# Altium integrated library Diode - TVS.IntLib: 371 symbols (part 4 of 6)
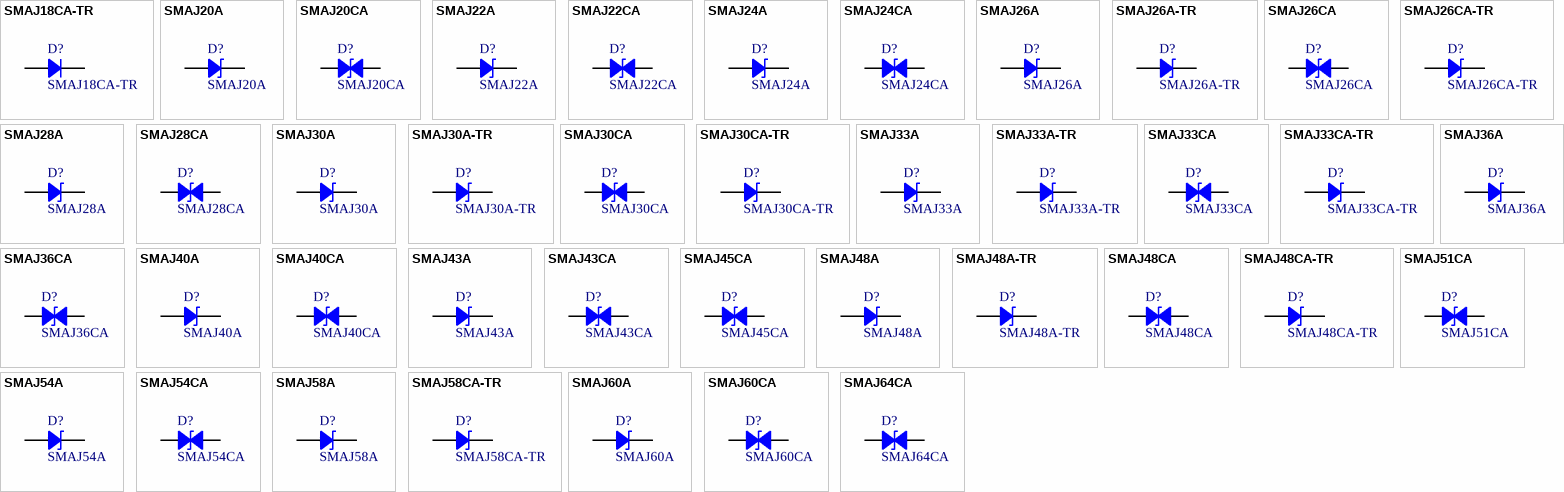
[diagram p12: symbols SMAJ18CA-TR to SMAJ64CA]

## SMAJ40A
designator D?
TVS DIODE 40VWM 64.5VC DO214AC; Manufacturer: Bourns Inc.; Type: Zener; Unidirectional Channels: 1; Power - Peak Pulse: 400W; Current - Peak Pulse: 6.2A; Voltage (Clamping): 64.5V; Voltage (Breakdown): 44.4V; Voltage (Reverse Standoff): 40V; Part Number: SMAJ40A; PartId: 14884; Supplier 1: Digi-Key; Supplier Part Number 1: SMAJ40ABTR-ND; ComponentLink1Description: Datasheet; ComponentLink1URL: http://www.bourns.com/docs/Product-Datasheets/SMAJ.pdf; ComponentLink2Description: Digi-Key Listing; ComponentLink2URL: https://www.digikey.com/product-detail/en/bourns-inc/SMAJ40A/SMAJ40ABTR-ND/2253427; Operating Temperature: -55C ~ 150C (TJ); Price: 0.0928; Device Package: DO-214AC, SMA
footprint Bourns DO214AC SMA
pins: 1, 2

## SMAJ40CA
designator D?
TVS DIODE 40VWM 64.5VC DO214AC; Manufacturer: Bourns Inc.; Type: Zener; Bidirectional Channels: 1; Power - Peak Pulse: 400W; Current - Peak Pulse: 6.2A; Voltage (Clamping): 64.5V; Voltage (Breakdown): 44.4V; Voltage (Reverse Standoff): 40V; Part Number: SMAJ40CA; PartId: 14846; Supplier 1: Digi-Key; Supplier Part Number 1: SMAJ40CABTR-ND; ComponentLink1Description: Datasheet; ComponentLink1URL: http://www.bourns.com/docs/Product-Datasheets/SMAJ.pdf; ComponentLink2Description: Digi-Key Listing; ComponentLink2URL: https://www.digikey.com/product-detail/en/bourns-inc/SMAJ40CA/SMAJ40CABTR-ND/2254555; Operating Temperature: -55C ~ 150C (TJ); Price: 0.0992; Device Package: DO-214AC, SMA
footprint Bourns DO214AC SMA
pins: 1, 2

## SMAJ43A
designator D?
TVS DIODE 43VWM 69.4VC DO214AC; Manufacturer: Bourns Inc.; Type: Zener; Unidirectional Channels: 1; Power - Peak Pulse: 400W; Current - Peak Pulse: 5.8A; Voltage (Clamping): 69.4V; Voltage (Breakdown): 47.8V; Voltage (Reverse Standoff): 43V; Part Number: SMAJ43A; PartId: 14901; Supplier 1: Digi-Key; Supplier Part Number 1: SMAJ43ABTR-ND; ComponentLink1Description: Datasheet; ComponentLink1URL: http://www.bourns.com/docs/Product-Datasheets/SMAJ.pdf; ComponentLink2Description: Digi-Key Listing; ComponentLink2URL: https://www.digikey.com/product-detail/en/bourns-inc/SMAJ43A/SMAJ43ABTR-ND/2254753; Operating Temperature: -55C ~ 150C (TJ); Price: 0.0928; Device Package: DO-214AC, SMA
footprint Bourns DO214AC SMA
pins: 1, 2

## SMAJ43CA
designator D?
TVS DIODE 43VWM 69.4VC DO214AC; Manufacturer: Bourns Inc.; Type: Zener; Bidirectional Channels: 1; Power - Peak Pulse: 400W; Current - Peak Pulse: 5.8A; Voltage (Clamping): 69.4V; Voltage (Breakdown): 47.8V; Voltage (Reverse Standoff): 43V; Part Number: SMAJ43CA; PartId: 14856; Supplier 1: Digi-Key; Supplier Part Number 1: SMAJ43CABTR-ND; ComponentLink1Description: Datasheet; ComponentLink1URL: http://www.bourns.com/docs/Product-Datasheets/SMAJ.pdf; ComponentLink2Description: Digi-Key Listing; ComponentLink2URL: https://www.digikey.com/product-detail/en/bourns-inc/SMAJ43CA/SMAJ43CABTR-ND/2254755; Operating Temperature: -55C ~ 150C (TJ); Price: 0.0992; Device Package: DO-214AC, SMA
footprint Bourns DO214AC SMA
pins: 1, 2

## SMAJ45CA
designator D?
TVS DIODE 45VWM 72.7VC DO214AC; Manufacturer: Bourns Inc.; Type: Zener; Bidirectional Channels: 1; Power - Peak Pulse: 400W; Current - Peak Pulse: 5.5A; Voltage (Clamping): 72.7V; Voltage (Breakdown): 50V; Voltage (Reverse Standoff): 45V; Part Number: SMAJ45CA; PartId: 14835; Supplier 1: Digi-Key; Supplier Part Number 1: SMAJ45CABTR-ND; ComponentLink1Description: Datasheet; ComponentLink1URL: http://www.bourns.com/docs/Product-Datasheets/SMAJ.pdf; ComponentLink2Description: Digi-Key Listing; ComponentLink2URL: https://www.digikey.com/product-detail/en/bourns-inc/SMAJ45CA/SMAJ45CABTR-ND/2253433; Operating Temperature: -55C ~ 150C (TJ); Price: 0.0992; Device Package: DO-214AC, SMA
footprint Bourns DO214AC SMA
pins: 1, 2

## SMAJ48A
designator D?
TVS DIODE 48VWM 77.4VC DO214AC; Manufacturer: Bourns Inc.; Type: Zener; Unidirectional Channels: 1; Power - Peak Pulse: 400W; Current - Peak Pulse: 5.2A; Voltage (Clamping): 77.4V; Voltage (Breakdown): 53.3V; Voltage (Reverse Standoff): 48V; Part Number: SMAJ48A; PartId: 14879; Supplier 1: Digi-Key; Supplier Part Number 1: SMAJ48ABTR-ND; ComponentLink1Description: Datasheet; ComponentLink1URL: http://www.bourns.com/docs/Product-Datasheets/SMAJ.pdf; ComponentLink2Description: Digi-Key Listing; ComponentLink2URL: https://www.digikey.com/product-detail/en/bourns-inc/SMAJ48A/SMAJ48ABTR-ND/2254751; Operating Temperature: -55C ~ 150C (TJ); Price: 0.0928; Device Package: DO-214AC, SMA
footprint Bourns DO214AC SMA
pins: 1, 2

## SMAJ48A-TR
designator D?
TVS DIODE 48VWM 100VC SMA; Manufacturer: STMicroelectronics; Type: Zener; Unidirectional Channels: 1; Power - Peak Pulse: 400W; Current - Peak Pulse: 23A (8/20us); Voltage (Clamping): 100V; Voltage (Breakdown): 53.3V; Voltage (Reverse Standoff): 48V; Part Number: SMAJ48A-TR; PartId: 14914; Supplier 1: Digi-Key; Supplier Part Number 1: 497-14743-2-ND; ComponentLink1Description: Datasheet; ComponentLink1URL: http://www2.st.com/content/ccc/resource/technical/document/datasheet/ff/c0/80/cc/19/4c/45/af/CD00001333.pdf/files/CD00001333.pdf/_jcr_content/translations/en.CD00001333.pdf; ComponentLink2Description: Digi-Key Listing; ComponentLink2URL: https://www.digikey.com/product-detail/en/stmicroelectronics/SMAJ48A-TR/497-14743-2-ND/1039120; Operating Temperature: -55C ~ 150C (TJ); Price: 0.0782; Device Package: DO-214AC, SMA
footprint ST DO214AC SMA
pins: 1, 2

## SMAJ48CA
designator D?
TVS DIODE 48VWM 77.4VC DO214AC; Manufacturer: Bourns Inc.; Type: Zener; Bidirectional Channels: 1; Power - Peak Pulse: 400W; Current - Peak Pulse: 5.2A; Voltage (Clamping): 77.4V; Voltage (Breakdown): 53.3V; Voltage (Reverse Standoff): 48V; Part Number: SMAJ48CA; PartId: 14858; Supplier 1: Digi-Key; Supplier Part Number 1: SMAJ48CABTR-ND; ComponentLink1Description: Datasheet; ComponentLink1URL: http://www.bourns.com/docs/Product-Datasheets/SMAJ.pdf; ComponentLink2Description: Digi-Key Listing; ComponentLink2URL: https://www.digikey.com/product-detail/en/bourns-inc/SMAJ48CA/SMAJ48CABTR-ND/2254747; Operating Temperature: -55C ~ 150C (TJ); Price: 0.0992; Device Package: DO-214AC, SMA
footprint Bourns DO214AC SMA
pins: 1, 2

## SMAJ48CA-TR
designator D?
TVS DIODE 48VWM 100VC SMA; Manufacturer: STMicroelectronics; Type: Zener; Bidirectional Channels: 1; Power - Peak Pulse: 400W; Current - Peak Pulse: 23A (8/20us); Voltage (Clamping): 100V; Voltage (Breakdown): 53.3V; Voltage (Reverse Standoff): 48V; Part Number: SMAJ48CA-TR; PartId: 14937; Supplier 1: Digi-Key; Supplier Part Number 1: 497-15657-2-ND; ComponentLink1Description: Datasheet; ComponentLink1URL: http://www2.st.com/content/ccc/resource/technical/document/datasheet/ff/c0/80/cc/19/4c/45/af/CD00001333.pdf/files/CD00001333.pdf/_jcr_content/translations/en.CD00001333.pdf; ComponentLink2Description: Digi-Key Listing; ComponentLink2URL: https://www.digikey.com/product-detail/en/stmicroelectronics/SMAJ48CA-TR/497-15657-2-ND/1039121; Operating Temperature: -55C ~ 150C (TJ); Price: 0.0833; Device Package: DO-214AC, SMA
footprint ST DO214AC SMA
pins: 1, 2

## SMAJ51CA
designator D?
TVS DIODE 51VWM 82.4VC DO214AC; Manufacturer: Bourns Inc.; Type: Zener; Bidirectional Channels: 1; Power - Peak Pulse: 400W; Current - Peak Pulse: 4.9A; Voltage (Clamping): 82.4V; Voltage (Breakdown): 56.7V; Voltage (Reverse Standoff): 51V; Part Number: SMAJ51CA; PartId: 14839; Supplier 1: Digi-Key; Supplier Part Number 1: SMAJ51CABTR-ND; ComponentLink1Description: Datasheet; ComponentLink1URL: http://www.bourns.com/docs/Product-Datasheets/SMAJ.pdf; ComponentLink2Description: Digi-Key Listing; ComponentLink2URL: https://www.digikey.com/product-detail/en/bourns-inc/SMAJ51CA/SMAJ51CABTR-ND/2254730; Operating Temperature: -55C ~ 150C (TJ); Price: 0.0992; Device Package: DO-214AC, SMA
footprint Bourns DO214AC SMA
pins: 1, 2

## SMAJ54A
designator D?
TVS DIODE 54VWM 87.1VC DO214AC; Manufacturer: Bourns Inc.; Type: Zener; Unidirectional Channels: 1; Power - Peak Pulse: 400W; Current - Peak Pulse: 4.6A; Voltage (Clamping): 87.1V; Voltage (Breakdown): 60V; Voltage (Reverse Standoff): 54V; Part Number: SMAJ54A; PartId: 14881; Supplier 1: Digi-Key; Supplier Part Number 1: SMAJ54ABTR-ND; ComponentLink1Description: Datasheet; ComponentLink1URL: http://www.bourns.com/docs/Product-Datasheets/SMAJ.pdf; ComponentLink2Description: Digi-Key Listing; ComponentLink2URL: https://www.digikey.com/product-detail/en/bourns-inc/SMAJ54A/SMAJ54ABTR-ND/2254697; Operating Temperature: -55C ~ 150C (TJ); Price: 0.0928; Device Package: DO-214AC, SMA
footprint Bourns DO214AC SMA
pins: 1, 2

## SMAJ54CA
designator D?
TVS DIODE 54VWM 87.1VC DO214AC; Manufacturer: Bourns Inc.; Type: Zener; Bidirectional Channels: 1; Power - Peak Pulse: 400W; Current - Peak Pulse: 4.6A; Voltage (Clamping): 87.1V; Voltage (Breakdown): 60V; Voltage (Reverse Standoff): 54V; Part Number: SMAJ54CA; PartId: 14850; Supplier 1: Digi-Key; Supplier Part Number 1: SMAJ54CABTR-ND; ComponentLink1Description: Datasheet; ComponentLink1URL: http://www.bourns.com/docs/Product-Datasheets/SMAJ.pdf; ComponentLink2Description: Digi-Key Listing; ComponentLink2URL: https://www.digikey.com/product-detail/en/bourns-inc/SMAJ54CA/SMAJ54CABTR-ND/2254694; Operating Temperature: -55C ~ 150C (TJ); Price: 0.0992; Device Package: DO-214AC, SMA
footprint Bourns DO214AC SMA
pins: 1, 2

## SMAJ58A
designator D?
TVS DIODE 58VWM 93.6VC DO214AC; Manufacturer: Bourns Inc.; Type: Zener; Unidirectional Channels: 1; Power - Peak Pulse: 400W; Current - Peak Pulse: 4.3A; Voltage (Clamping): 93.6V; Voltage (Breakdown): 64.4V; Voltage (Reverse Standoff): 58V; Part Number: SMAJ58A; PartId: 14885; Supplier 1: Digi-Key; Supplier Part Number 1: SMAJ58ABTR-ND; ComponentLink1Description: Datasheet; ComponentLink1URL: http://www.bourns.com/docs/Product-Datasheets/SMAJ.pdf; ComponentLink2Description: Digi-Key Listing; ComponentLink2URL: https://www.digikey.com/product-detail/en/bourns-inc/SMAJ58A/SMAJ58ABTR-ND/2254713; Operating Temperature: -55C ~ 150C (TJ); Price: 0.0928; Device Package: DO-214AC, SMA
footprint Bourns DO214AC SMA
pins: 1, 2

## SMAJ58CA-TR
designator D?
TVS DIODE 58VWM 121VC SMA; Manufacturer: STMicroelectronics; Type: Zener; Bidirectional Channels: 1; Power - Peak Pulse: 400W; Current - Peak Pulse: 19A (8/20us); Voltage (Clamping): 121V; Voltage (Breakdown): 64.4V; Voltage (Reverse Standoff): 58V; Part Number: SMAJ58CA-TR; PartId: 14949; Supplier 1: Digi-Key; Supplier Part Number 1: 497-6509-2-ND; ComponentLink1Description: Datasheet; ComponentLink1URL: http://www2.st.com/content/ccc/resource/technical/document/datasheet/ff/c0/80/cc/19/4c/45/af/CD00001333.pdf/files/CD00001333.pdf/_jcr_content/translations/en.CD00001333.pdf; ComponentLink2Description: Digi-Key Listing; ComponentLink2URL: https://www.digikey.com/product-detail/en/stmicroelectronics/SMAJ58CA-TR/497-6509-2-ND/1165922; Operating Temperature: -55C ~ 150C (TJ); Price: 0.1003; Device Package: DO-214AC, SMA
footprint ST DO214AC SMA
pins: 1, 2

## SMAJ60A
designator D?
TVS DIODE 60VWM 96.8VC DO214AC; Manufacturer: Bourns Inc.; Type: Zener; Unidirectional Channels: 1; Power - Peak Pulse: 400W; Current - Peak Pulse: 4.1A; Voltage (Clamping): 96.8V; Voltage (Breakdown): 66.7V; Voltage (Reverse Standoff): 60V; Part Number: SMAJ60A; PartId: 14886; Supplier 1: Digi-Key; Supplier Part Number 1: SMAJ60ABTR-ND; ComponentLink1Description: Datasheet; ComponentLink1URL: http://www.bourns.com/docs/Product-Datasheets/SMAJ.pdf; ComponentLink2Description: Digi-Key Listing; ComponentLink2URL: https://www.digikey.com/product-detail/en/bourns-inc/SMAJ60A/SMAJ60ABTR-ND/2253429; Operating Temperature: -55C ~ 150C (TJ); Price: 0.0928; Device Package: DO-214AC, SMA
footprint Bourns DO214AC SMA
pins: 1, 2

## SMAJ60CA
designator D?
TVS DIODE 60VWM 96.8VC DO214AC; Manufacturer: Bourns Inc.; Type: Zener; Bidirectional Channels: 1; Power - Peak Pulse: 400W; Current - Peak Pulse: 4.1A; Voltage (Clamping): 96.8V; Voltage (Breakdown): 66.7V; Voltage (Reverse Standoff): 60V; Part Number: SMAJ60CA; PartId: 14859; Supplier 1: Digi-Key; Supplier Part Number 1: SMAJ60CABTR-ND; ComponentLink1Description: Datasheet; ComponentLink1URL: http://www.bourns.com/docs/Product-Datasheets/SMAJ.pdf; ComponentLink2Description: Digi-Key Listing; ComponentLink2URL: https://www.digikey.com/product-detail/en/bourns-inc/SMAJ60CA/SMAJ60CABTR-ND/2254749; Operating Temperature: -55C ~ 150C (TJ); Price: 0.0992; Device Package: DO-214AC, SMA
footprint Bourns DO214AC SMA
pins: 1, 2

## SMAJ64CA
designator D?
TVS DIODE 64VWM 103VC DO214AC; Manufacturer: Bourns Inc.; Type: Zener; Bidirectional Channels: 1; Power - Peak Pulse: 400W; Current - Peak Pulse: 3.9A; Voltage (Clamping): 103V; Voltage (Breakdown): 71.1V; Voltage (Reverse Standoff): 64V; Part Number: SMAJ64CA; PartId: 14866; Supplier 1: Digi-Key; Supplier Part Number 1: SMAJ64CABTR-ND; ComponentLink1Description: Datasheet; ComponentLink1URL: http://www.bourns.com/docs/Product-Datasheets/SMAJ.pdf; ComponentLink2Description: Digi-Key Listing; ComponentLink2URL: https://www.digikey.com/product-detail/en/bourns-inc/SMAJ64CA/SMAJ64CABTR-ND/2254707; Operating Temperature: -55C ~ 150C (TJ); Price: 0.0992; Device Package: DO-214AC, SMA
footprint Bourns DO214AC SMA
pins: 1, 2

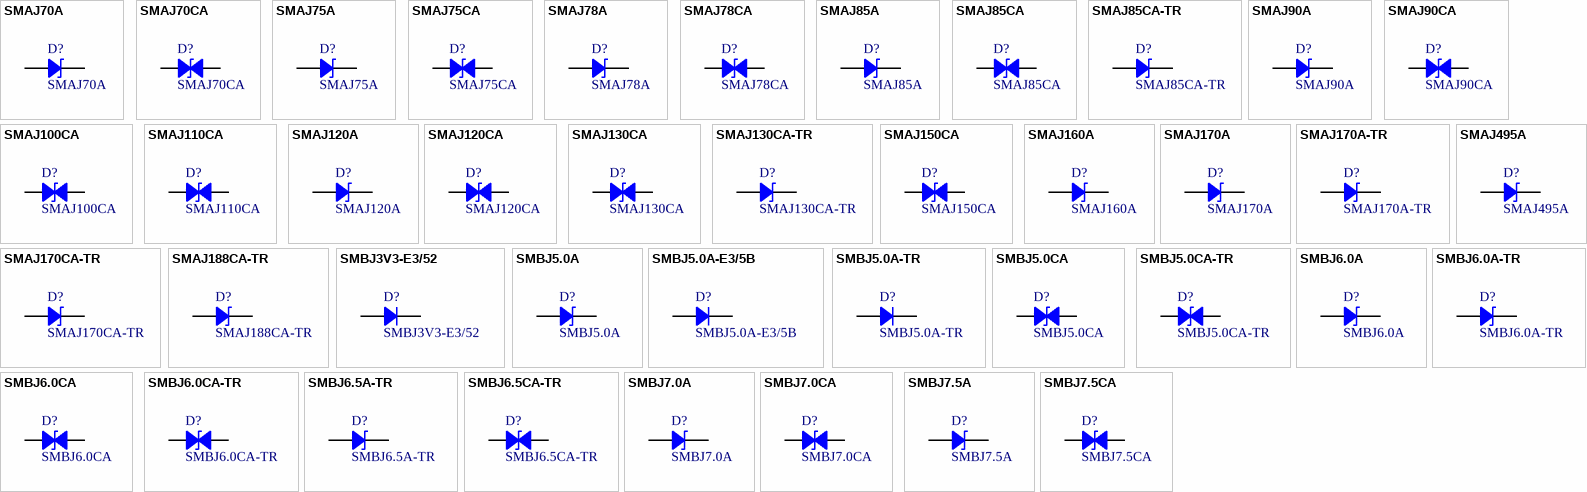
[diagram p5: symbols SMAJ70A to SMBJ7.5CA]

## SMAJ70A
designator D?
TVS DIODE 70VWM 113VC DO214AC; Manufacturer: Bourns Inc.; Type: Zener; Unidirectional Channels: 1; Power - Peak Pulse: 400W; Current - Peak Pulse: 3.5A; Voltage (Clamping): 113V; Voltage (Breakdown): 77.8V; Voltage (Reverse Standoff): 70V; Part Number: SMAJ70A; PartId: 14900; Supplier 1: Digi-Key; Supplier Part Number 1: SMAJ70ABTR-ND; ComponentLink1Description: Datasheet; ComponentLink1URL: http://www.bourns.com/docs/Product-Datasheets/SMAJ.pdf; ComponentLink2Description: Digi-Key Listing; ComponentLink2URL: https://www.digikey.com/product-detail/en/bourns-inc/SMAJ70A/SMAJ70ABTR-ND/2254659; Operating Temperature: -55C ~ 150C (TJ); Price: 0.0928; Device Package: DO-214AC, SMA
footprint Bourns DO214AC SMA
pins: 1, 2

## SMAJ70CA
designator D?
TVS DIODE 70VWM 113VC DO214AC; Manufacturer: Bourns Inc.; Type: Zener; Bidirectional Channels: 1; Power - Peak Pulse: 400W; Current - Peak Pulse: 3.5A; Voltage (Clamping): 113V; Voltage (Breakdown): 77.8V; Voltage (Reverse Standoff): 70V; Part Number: SMAJ70CA; PartId: 14845; Supplier 1: Digi-Key; Supplier Part Number 1: SMAJ70CABTR-ND; ComponentLink1Description: Datasheet; ComponentLink1URL: http://www.bourns.com/docs/Product-Datasheets/SMAJ.pdf; ComponentLink2Description: Digi-Key Listing; ComponentLink2URL: https://www.digikey.com/product-detail/en/bourns-inc/SMAJ70CA/SMAJ70CABTR-ND/2254701; Operating Temperature: -55C ~ 150C (TJ); Price: 0.0992; Device Package: DO-214AC, SMA
footprint Bourns DO214AC SMA
pins: 1, 2

## SMAJ75A
designator D?
TVS DIODE 75VWM 121VC DO214AC; Manufacturer: Bourns Inc.; Type: Zener; Unidirectional Channels: 1; Power - Peak Pulse: 400W; Current - Peak Pulse: 3.3A; Voltage (Clamping): 121V; Voltage (Breakdown): 83.3V; Voltage (Reverse Standoff): 75V; Part Number: SMAJ75A; PartId: 14899; Supplier 1: Digi-Key; Supplier Part Number 1: SMAJ75ABTR-ND; ComponentLink1Description: Datasheet; ComponentLink1URL: http://www.bourns.com/docs/Product-Datasheets/SMAJ.pdf; ComponentLink2Description: Digi-Key Listing; ComponentLink2URL: https://www.digikey.com/product-detail/en/bourns-inc/SMAJ75A/SMAJ75ABTR-ND/2254664; Operating Temperature: -55C ~ 150C (TJ); Price: 0.0928; Device Package: DO-214AC, SMA
footprint Bourns DO214AC SMA
pins: 1, 2

## SMAJ75CA
designator D?
TVS DIODE 75VWM 121VC DO214AC; Manufacturer: Bourns Inc.; Type: Zener; Bidirectional Channels: 1; Power - Peak Pulse: 400W; Current - Peak Pulse: 3.3A; Voltage (Clamping): 121V; Voltage (Breakdown): 83.3V; Voltage (Reverse Standoff): 75V; Part Number: SMAJ75CA; PartId: 14869; Supplier 1: Digi-Key; Supplier Part Number 1: SMAJ75CABTR-ND; ComponentLink1Description: Datasheet; ComponentLink1URL: http://www.bourns.com/docs/Product-Datasheets/SMAJ.pdf; ComponentLink2Description: Digi-Key Listing; ComponentLink2URL: https://www.digikey.com/product-detail/en/bourns-inc/SMAJ75CA/SMAJ75CABTR-ND/2254545; Operating Temperature: -55C ~ 150C (TJ); Price: 0.0992; Device Package: DO-214AC, SMA
footprint Bourns DO214AC SMA
pins: 1, 2

## SMAJ78A
designator D?
TVS DIODE 78VWM 126VC DO214AC; Manufacturer: Bourns Inc.; Type: Zener; Unidirectional Channels: 1; Power - Peak Pulse: 400W; Current - Peak Pulse: 3.2A; Voltage (Clamping): 126V; Voltage (Breakdown): 86.7V; Voltage (Reverse Standoff): 78V; Part Number: SMAJ78A; PartId: 14898; Supplier 1: Digi-Key; Supplier Part Number 1: SMAJ78ABTR-ND; ComponentLink1Description: Datasheet; ComponentLink1URL: http://www.bourns.com/docs/Product-Datasheets/SMAJ.pdf; ComponentLink2Description: Digi-Key Listing; ComponentLink2URL: https://www.digikey.com/product-detail/en/bourns-inc/SMAJ78A/SMAJ78ABTR-ND/2254547; Operating Temperature: -55C ~ 150C (TJ); Price: 0.0928; Device Package: DO-214AC, SMA
footprint Bourns DO214AC SMA
pins: 1, 2

## SMAJ78CA
designator D?
TVS DIODE 78VWM 126VC DO214AC; Manufacturer: Bourns Inc.; Type: Zener; Bidirectional Channels: 1; Power - Peak Pulse: 400W; Current - Peak Pulse: 3.2A; Voltage (Clamping): 126V; Voltage (Breakdown): 86.7V; Voltage (Reverse Standoff): 78V; Part Number: SMAJ78CA; PartId: 14868; Supplier 1: Digi-Key; Supplier Part Number 1: SMAJ78CABTR-ND; ComponentLink1Description: Datasheet; ComponentLink1URL: http://www.bourns.com/docs/Product-Datasheets/SMAJ.pdf; ComponentLink2Description: Digi-Key Listing; ComponentLink2URL: https://www.digikey.com/product-detail/en/bourns-inc/SMAJ78CA/SMAJ78CABTR-ND/2254546; Operating Temperature: -55C ~ 150C (TJ); Price: 0.0992; Device Package: DO-214AC, SMA
footprint Bourns DO214AC SMA
pins: 1, 2

## SMAJ85A
designator D?
TVS DIODE 85VWM 137VC DO214AC; Manufacturer: Bourns Inc.; Type: Zener; Unidirectional Channels: 1; Power - Peak Pulse: 400W; Current - Peak Pulse: 2.9A; Voltage (Clamping): 137V; Voltage (Breakdown): 94.4V; Voltage (Reverse Standoff): 85V; Part Number: SMAJ85A; PartId: 14902; Supplier 1: Digi-Key; Supplier Part Number 1: SMAJ85ABTR-ND; ComponentLink1Description: Datasheet; ComponentLink1URL: http://www.bourns.com/docs/Product-Datasheets/SMAJ.pdf; ComponentLink2Description: Digi-Key Listing; ComponentLink2URL: https://www.digikey.com/product-detail/en/bourns-inc/SMAJ85A/SMAJ85ABTR-ND/2253430; Operating Temperature: -55C ~ 150C (TJ); Price: 0.0928; Device Package: DO-214AC, SMA
footprint Bourns DO214AC SMA
pins: 1, 2

## SMAJ85CA
designator D?
TVS DIODE 85VWM 137VC DO214AC; Manufacturer: Bourns Inc.; Type: Zener; Bidirectional Channels: 1; Power - Peak Pulse: 400W; Current - Peak Pulse: 2.9A; Voltage (Clamping): 137V; Voltage (Breakdown): 94.4V; Voltage (Reverse Standoff): 85V; Part Number: SMAJ85CA; PartId: 14847; Supplier 1: Digi-Key; Supplier Part Number 1: SMAJ85CABTR-ND; ComponentLink1Description: Datasheet; ComponentLink1URL: http://www.bourns.com/docs/Product-Datasheets/SMAJ.pdf; ComponentLink2Description: Digi-Key Listing; ComponentLink2URL: https://www.digikey.com/product-detail/en/bourns-inc/SMAJ85CA/SMAJ85CABTR-ND/2254720; Operating Temperature: -55C ~ 150C (TJ); Price: 0.0992; Device Package: DO-214AC, SMA
footprint Bourns DO214AC SMA
pins: 1, 2

## SMAJ85CA-TR
designator D?
TVS DIODE 85VWM 178VC SMA; Manufacturer: STMicroelectronics; Type: Zener; Bidirectional Channels: 1; Power - Peak Pulse: 400W; Current - Peak Pulse: 13A (8/20us); Voltage (Clamping): 178V; Voltage (Breakdown): 94V; Voltage (Reverse Standoff): 85V; Part Number: SMAJ85CA-TR; PartId: 14944; Supplier 1: Digi-Key; Supplier Part Number 1: 497-7897-2-ND; ComponentLink1Description: Datasheet; ComponentLink1URL: http://www2.st.com/content/ccc/resource/technical/document/datasheet/ff/c0/80/cc/19/4c/45/af/CD00001333.pdf/files/CD00001333.pdf/_jcr_content/translations/en.CD00001333.pdf; ComponentLink2Description: Digi-Key Listing; ComponentLink2URL: https://www.digikey.com/product-detail/en/stmicroelectronics/SMAJ85CA-TR/497-7897-2-ND/1039128; Operating Temperature: -55C ~ 150C (TJ); Price: 0.0901; Device Package: DO-214AC, SMA
footprint ST DO214AC SMA
pins: 1, 2

## SMAJ90A
designator D?
TVS DIODE 90VWM 146VC DO214AC; Manufacturer: Bourns Inc.; Type: Zener; Unidirectional Channels: 1; Power - Peak Pulse: 400W; Current - Peak Pulse: 2.7A; Voltage (Clamping): 146V; Voltage (Breakdown): 100V; Voltage (Reverse Standoff): 90V; Part Number: SMAJ90A; PartId: 14903; Supplier 1: Digi-Key; Supplier Part Number 1: SMAJ90ABTR-ND; ComponentLink1Description: Datasheet; ComponentLink1URL: http://www.bourns.com/docs/Product-Datasheets/SMAJ.pdf; ComponentLink2Description: Digi-Key Listing; ComponentLink2URL: https://www.digikey.com/product-detail/en/bourns-inc/SMAJ90A/SMAJ90ABTR-ND/2254729; Operating Temperature: -55C ~ 150C (TJ); Price: 0.0928; Device Package: DO-214AC, SMA
footprint Bourns DO214AC SMA
pins: 1, 2

## SMAJ90CA
designator D?
TVS DIODE 90VWM 146VC DO214AC; Manufacturer: Bourns Inc.; Type: Zener; Bidirectional Channels: 1; Power - Peak Pulse: 400W; Current - Peak Pulse: 2.7A; Voltage (Clamping): 146V; Voltage (Breakdown): 100V; Voltage (Reverse Standoff): 90V; Part Number: SMAJ90CA; PartId: 14867; Supplier 1: Digi-Key; Supplier Part Number 1: SMAJ90CABTR-ND; ComponentLink1Description: Datasheet; ComponentLink1URL: http://www.bourns.com/docs/Product-Datasheets/SMAJ.pdf; ComponentLink2Description: Digi-Key Listing; ComponentLink2URL: https://www.digikey.com/product-detail/en/bourns-inc/SMAJ90CA/SMAJ90CABTR-ND/2253434; Operating Temperature: -55C ~ 150C (TJ); Price: 0.0992; Device Package: DO-214AC, SMA
footprint Bourns DO214AC SMA
pins: 1, 2

## SMAJ100CA
designator D?
TVS DIODE 100VWM 162VC DO214AC; Manufacturer: Bourns Inc.; Type: Zener; Bidirectional Channels: 1; Power - Peak Pulse: 400W; Current - Peak Pulse: 2.5A; Voltage (Clamping): 162V; Voltage (Breakdown): 111V; Voltage (Reverse Standoff): 100V; Part Number: SMAJ100CA; PartId: 14861; Supplier 1: Digi-Key; Supplier Part Number 1: SMAJ100CABTR-ND; ComponentLink1Description: Datasheet; ComponentLink1URL: http://www.bourns.com/docs/Product-Datasheets/SMAJ.pdf; ComponentLink2Description: Digi-Key Listing; ComponentLink2URL: https://www.digikey.com/product-detail/en/bourns-inc/SMAJ100CA/SMAJ100CABTR-ND/2254698; Operating Temperature: -55C ~ 150C (TJ); Price: 0.1025; Device Package: DO-214AC, SMA
footprint Bourns DO214AC SMA
pins: 1, 2

## SMAJ110CA
designator D?
TVS DIODE 110VWM 177VC DO214AC; Manufacturer: Bourns Inc.; Type: Zener; Bidirectional Channels: 1; Power - Peak Pulse: 400W; Current - Peak Pulse: 2.3A; Voltage (Clamping): 177V; Voltage (Breakdown): 122V; Voltage (Reverse Standoff): 110V; Part Number: SMAJ110CA; PartId: 14872; Supplier 1: Digi-Key; Supplier Part Number 1: SMAJ110CABTR-ND; ComponentLink1Description: Datasheet; ComponentLink1URL: http://www.bourns.com/docs/Product-Datasheets/SMAJ.pdf; ComponentLink2Description: Digi-Key Listing; ComponentLink2URL: https://www.digikey.com/product-detail/en/bourns-inc/SMAJ110CA/SMAJ110CABTR-ND/2254702; Operating Temperature: -55C ~ 150C (TJ); Price: 0.1025; Device Package: DO-214AC, SMA
footprint Bourns DO214AC SMA
pins: 1, 2

## SMAJ120A
designator D?
TVS DIODE 120VWM 193VC DO214AC; Manufacturer: Bourns Inc.; Type: Zener; Unidirectional Channels: 1; Power - Peak Pulse: 400W; Current - Peak Pulse: 2.1A; Voltage (Clamping): 193V; Voltage (Breakdown): 133V; Voltage (Reverse Standoff): 120V; Part Number: SMAJ120A; PartId: 14897; Supplier 1: Digi-Key; Supplier Part Number 1: SMAJ120ABTR-ND; ComponentLink1Description: Datasheet; ComponentLink1URL: http://www.bourns.com/docs/Product-Datasheets/SMAJ.pdf; ComponentLink2Description: Digi-Key Listing; ComponentLink2URL: https://www.digikey.com/product-detail/en/bourns-inc/SMAJ120A/SMAJ120ABTR-ND/2254612; Operating Temperature: -55C ~ 150C (TJ); Price: 0.0946; Device Package: DO-214AC, SMA
footprint Bourns DO214AC SMA
pins: 1, 2

## SMAJ120CA
designator D?
TVS DIODE 120VWM 193VC DO214AC; Manufacturer: Bourns Inc.; Type: Zener; Bidirectional Channels: 1; Power - Peak Pulse: 400W; Current - Peak Pulse: 2.1A; Voltage (Clamping): 193V; Voltage (Breakdown): 133V; Voltage (Reverse Standoff): 120V; Part Number: SMAJ120CA; PartId: 14862; Supplier 1: Digi-Key; Supplier Part Number 1: SMAJ120CABTR-ND; ComponentLink1Description: Datasheet; ComponentLink1URL: http://www.bourns.com/docs/Product-Datasheets/SMAJ.pdf; ComponentLink2Description: Digi-Key Listing; ComponentLink2URL: https://www.digikey.com/product-detail/en/bourns-inc/SMAJ120CA/SMAJ120CABTR-ND/2254708; Operating Temperature: -55C ~ 150C (TJ); Price: 0.1025; Device Package: DO-214AC, SMA
footprint Bourns DO214AC SMA
pins: 1, 2

## SMAJ130CA
designator D?
TVS DIODE 130VWM 209VC DO214AC; Manufacturer: Bourns Inc.; Type: Zener; Bidirectional Channels: 1; Power - Peak Pulse: 400W; Current - Peak Pulse: 1.9A; Voltage (Clamping): 209V; Voltage (Breakdown): 144V; Voltage (Reverse Standoff): 130V; Part Number: SMAJ130CA; PartId: 14873; Supplier 1: Digi-Key; Supplier Part Number 1: SMAJ130CABTR-ND; ComponentLink1Description: Datasheet; ComponentLink1URL: http://www.bourns.com/docs/Product-Datasheets/SMAJ.pdf; ComponentLink2Description: Digi-Key Listing; ComponentLink2URL: https://www.digikey.com/product-detail/en/bourns-inc/SMAJ130CA/SMAJ130CABTR-ND/2254691; Operating Temperature: -55C ~ 150C (TJ); Price: 0.1025; Device Package: DO-214AC, SMA
footprint Bourns DO214AC SMA
pins: 1, 2

## SMAJ130CA-TR
designator D?
TVS DIODE 130VWM 265VC SMA; Manufacturer: STMicroelectronics; Type: Zener; Bidirectional Channels: 1; Power - Peak Pulse: 400W; Current - Peak Pulse: 9A (8/20us); Voltage (Clamping): 265V; Voltage (Breakdown): 144V; Voltage (Reverse Standoff): 130V; Part Number: SMAJ130CA-TR; PartId: 14947; Supplier 1: Digi-Key; Supplier Part Number 1: 497-15655-2-ND; ComponentLink1Description: Datasheet; ComponentLink1URL: http://www2.st.com/content/ccc/resource/technical/document/datasheet/ff/c0/80/cc/19/4c/45/af/CD00001333.pdf/files/CD00001333.pdf/_jcr_content/translations/en.CD00001333.pdf; ComponentLink2Description: Digi-Key Listing; ComponentLink2URL: https://www.digikey.com/product-detail/en/stmicroelectronics/SMAJ130CA-TR/497-15655-2-ND/1039102; Operating Temperature: -55C ~ 150C (TJ); Price: 0.0901; Device Package: DO-214AC, SMA
footprint ST DO214AC SMA
pins: 1, 2

## SMAJ150CA
designator D?
TVS DIODE 150VWM 243VC DO214AC; Manufacturer: Bourns Inc.; Type: Zener; Bidirectional Channels: 1; Power - Peak Pulse: 400W; Current - Peak Pulse: 1.6A; Voltage (Clamping): 243V; Voltage (Breakdown): 167V; Voltage (Reverse Standoff): 150V; Part Number: SMAJ150CA; PartId: 14860; Supplier 1: Digi-Key; Supplier Part Number 1: SMAJ150CABTR-ND; ComponentLink1Description: Datasheet; ComponentLink1URL: http://www.bourns.com/docs/Product-Datasheets/SMAJ.pdf; ComponentLink2Description: Digi-Key Listing; ComponentLink2URL: https://www.digikey.com/product-detail/en/bourns-inc/SMAJ150CA/SMAJ150CABTR-ND/2254737; Operating Temperature: -55C ~ 150C (TJ); Price: 0.1025; Device Package: DO-214AC, SMA
footprint Bourns DO214AC SMA
pins: 1, 2

## SMAJ160A
designator D?
TVS DIODE 160VWM 259VC DO214AC; Manufacturer: Bourns Inc.; Type: Zener; Unidirectional Channels: 1; Power - Peak Pulse: 400W; Current - Peak Pulse: 1.5A; Voltage (Clamping): 259V; Voltage (Breakdown): 178V; Voltage (Reverse Standoff): 160V; Part Number: SMAJ160A; PartId: 14904; Supplier 1: Digi-Key; Supplier Part Number 1: SMAJ160ABTR-ND; ComponentLink1Description: Datasheet; ComponentLink1URL: http://www.bourns.com/docs/Product-Datasheets/SMAJ.pdf; ComponentLink2Description: Digi-Key Listing; ComponentLink2URL: https://www.digikey.com/product-detail/en/bourns-inc/SMAJ160A/SMAJ160ABTR-ND/2254731; Operating Temperature: -55C ~ 150C (TJ); Price: 0.0946; Device Package: DO-214AC, SMA
footprint Bourns DO214AC SMA
pins: 1, 2

## SMAJ170A
designator D?
TVS DIODE 170VWM 275VC DO214AC; Manufacturer: Bourns Inc.; Type: Zener; Unidirectional Channels: 1; Power - Peak Pulse: 400W; Current - Peak Pulse: 1.5A; Voltage (Clamping): 275V; Voltage (Breakdown): 189V; Voltage (Reverse Standoff): 170V; Part Number: SMAJ170A; PartId: 14905; Supplier 1: Digi-Key; Supplier Part Number 1: SMAJ170ABTR-ND; ComponentLink1Description: Datasheet; ComponentLink1URL: http://www.bourns.com/docs/Product-Datasheets/SMAJ.pdf; ComponentLink2Description: Digi-Key Listing; ComponentLink2URL: https://www.digikey.com/product-detail/en/bourns-inc/SMAJ170A/SMAJ170ABTR-ND/2254714; Operating Temperature: -55C ~ 150C (TJ); Price: 0.0946; Device Package: DO-214AC, SMA
footprint Bourns DO214AC SMA
pins: 1, 2

## SMAJ170A-TR
designator D?
TVS DIODE 170VWM 353VC SMA; Manufacturer: STMicroelectronics; Type: Zener; Unidirectional Channels: 1; Power - Peak Pulse: 400W; Current - Peak Pulse: 6.5A (8/20us); Voltage (Clamping): 353V; Voltage (Breakdown): 189V; Voltage (Reverse Standoff): 170V; Part Number: SMAJ170A-TR; PartId: 14917; Supplier 1: Digi-Key; Supplier Part Number 1: 497-6505-2-ND; ComponentLink1Description: Datasheet; ComponentLink1URL: http://www2.st.com/content/ccc/resource/technical/document/datasheet/ff/c0/80/cc/19/4c/45/af/CD00001333.pdf/files/CD00001333.pdf/_jcr_content/translations/en.CD00001333.pdf; ComponentLink2Description: Digi-Key Listing; ComponentLink2URL: https://www.digikey.com/product-detail/en/stmicroelectronics/SMAJ170A-TR/497-6505-2-ND/1039106; Operating Temperature: -55C ~ 150C (TJ); Price: 0.0799; Device Package: DO-214AC, SMA
footprint ST DO214AC SMA
pins: 1, 2

## SMAJ170CA-TR
designator D?
TVS DIODE 170VWM 353VC SMA; Manufacturer: STMicroelectronics; Type: Zener; Bidirectional Channels: 1; Power - Peak Pulse: 400W; Current - Peak Pulse: 6.5A (8/20us); Voltage (Clamping): 353V; Voltage (Breakdown): 189V; Voltage (Reverse Standoff): 170V; Part Number: SMAJ170CA-TR; PartId: 14945; Supplier 1: Digi-Key; Supplier Part Number 1: 497-6506-2-ND; ComponentLink1Description: Datasheet; ComponentLink1URL: http://www2.st.com/content/ccc/resource/technical/document/datasheet/ff/c0/80/cc/19/4c/45/af/CD00001333.pdf/files/CD00001333.pdf/_jcr_content/translations/en.CD00001333.pdf; ComponentLink2Description: Digi-Key Listing; ComponentLink2URL: https://www.digikey.com/product-detail/en/stmicroelectronics/SMAJ170CA-TR/497-6506-2-ND/1039107; Operating Temperature: -55C ~ 150C (TJ); Price: 0.0901; Device Package: DO-214AC, SMA
footprint ST DO214AC SMA
pins: 1, 2

## SMAJ188CA-TR
designator D?
TVS DIODE 188VWM 388VC SMA; Manufacturer: STMicroelectronics; Type: Zener; Bidirectional Channels: 1; Power - Peak Pulse: 400W; Current - Peak Pulse: 6A (8/20us); Voltage (Clamping): 388V; Voltage (Breakdown): 209V; Voltage (Reverse Standoff): 188V; Part Number: SMAJ188CA-TR; PartId: 14946; Supplier 1: Digi-Key; Supplier Part Number 1: 497-7891-2-ND; ComponentLink1Description: Datasheet; ComponentLink1URL: http://www2.st.com/content/ccc/resource/technical/document/datasheet/ff/c0/80/cc/19/4c/45/af/CD00001333.pdf/files/CD00001333.pdf/_jcr_content/translations/en.CD00001333.pdf; ComponentLink2Description: Digi-Key Listing; ComponentLink2URL: https://www.digikey.com/product-detail/en/stmicroelectronics/SMAJ188CA-TR/497-7891-2-ND/1039109; Operating Temperature: -55C ~ 150C (TJ); Price: 0.0901; Device Package: DO-214AC, SMA
footprint ST DO214AC SMA
pins: 1, 2

## SMAJ495A
designator D?
TVS DIODE 495VWM 760VC DO214AC; Manufacturer: Bourns Inc.; Type: Zener; Unidirectional Channels: 1; Power - Peak Pulse: 400W; Current - Peak Pulse: 500mA; Voltage (Clamping): 760V; Voltage (Breakdown): 522V; Voltage (Reverse Standoff): 495V; Part Number: SMAJ495A; PartId: 14908; Supplier 1: Digi-Key; Supplier Part Number 1: SMAJ495ATR-ND; ComponentLink1Description: Datasheet; ComponentLink1URL: http://www.bourns.com/docs/Product-Datasheets/SMAJ.pdf; ComponentLink2Description: Digi-Key Listing; ComponentLink2URL: https://www.digikey.com/product-detail/en/bourns-inc/SMAJ495A/SMAJ495ATR-ND/3918524; Operating Temperature: -55C ~ 150C (TJ); Price: 0.1827; Device Package: DO-214AC, SMA
footprint Bourns DO214AC SMA
pins: 1, 2

## SMBJ3V3-E3/52
designator D?
TVS DIODE 3.3VWM 10.3VC SMB; Manufacturer: Vishay Semiconductor Diodes Division; Type: Surface Mount; Power - Peak Pulse: 600W; Current - Peak Pulse: 200A (8/20us); Voltage (Clamping): 10.3V; Voltage (Breakdown): 4.1V; Voltage (Reverse Standoff): 3.3V; Part Number: SMBJ3V3-E3/52; PartId: 7764; Supplier 1: Digi-Key; Supplier Part Number 1: SMBJ3V3-E3/52GITR-ND; ComponentLink1Description: Datasheet; ComponentLink1URL: http://www.vishay.com/docs/88940/smbj3v3.pdf; ComponentLink2Description: Digi-Key Listing; ComponentLink2URL: http://www.digikey.ca/product-detail/en/SMBJ3V3-E3%2F52/SMBJ3V3-E3%2F52GITR-ND/1147817; Operating Temperature: -65C ~ 175C (TJ); Price: 0.234; Device Package: DO-214AA, SMB
footprint DO214AA SMB
pins: 1, 2

## SMBJ5.0A
designator D?
TVS DIODE 5VWM 9.2VC DO214AA; Manufacturer: Bourns Inc.; Type: Zener; Unidirectional Channels: 1; Power - Peak Pulse: 600W; Current - Peak Pulse: 65.3A; Voltage (Clamping): 9.2V; Voltage (Breakdown): 6.4V; Voltage (Reverse Standoff): 5V; Part Number: SMBJ5.0A; PartId: 14749; Supplier 1: Digi-Key; Supplier Part Number 1: SMBJ5.0ABTR-ND; ComponentLink1Description: Datasheet; ComponentLink1URL: http://www.bourns.com/docs/Product-Datasheets/SMBJ.pdf; ComponentLink2Description: Digi-Key Listing; ComponentLink2URL: https://www.digikey.com/product-detail/en/bourns-inc/SMBJ5.0A/SMBJ5.0ABTR-ND/2254202; Operating Temperature: -55C ~ 150C (TJ); Price: 0.1001; Device Package: DO-214AA, SMB
footprint BOURNS DO214AA SMB
pins: 1, 2

## SMBJ5.0A-E3/5B
designator D?
TVS DIODE 5VWM 9.2VC SMB; Manufacturer: Vishay Semiconductor Diodes Division; Type: Surface Mount; Power - Peak Pulse: 600W; Current - Peak Pulse: 65.2A; Voltage (Clamping): 9.2V; Voltage (Breakdown): 6.4V; Voltage (Reverse Standoff): 5V; Part Number: SMBJ5.0A-E3/5B; PartId: 7761; Supplier 1: Digi-Key; Supplier Part Number 1: SMBJ5.0A-E3/5BGITR-ND; ComponentLink1Description: Datasheet; ComponentLink1URL: http://www.vishay.com/docs/88392/smbj50a.pdf; ComponentLink2Description: Digi-Key Listing; ComponentLink2URL: http://www.digikey.ca/product-detail/en/SMBJ5.0A-E3%2F5B/SMBJ5.0A-E3%2F5BGITR-ND/2147889; Operating Temperature: -55C ~ 150C (TJ); Price: 0.1368; Device Package: DO-214AA, SMB
footprint DO214AA SMB
pins: 1, 2

## SMBJ5.0A-TR
designator D?
TVS DIODE 5VWM 13.4VC DO214AA; Manufacturer: STMicroelectronics; Type: Surface Mount; Power - Peak Pulse: 600W; Current - Peak Pulse: 298A (8/20us); Voltage (Clamping): 13.4V; Voltage (Breakdown): 6.4V; Voltage (Reverse Standoff): 5V; Part Number: SMBJ5.0A-TR; PartId: 7760; Supplier 1: Digi-Key; Supplier Part Number 1: 497-3144-2-ND; ComponentLink1Description: Datasheet; ComponentLink1URL: http://www.st.com/web/en/resource/technical/document/datasheet/CD00001366.pdf; ComponentLink2Description: Digi-Key Listing; ComponentLink2URL: http://www.digikey.ca/product-detail/en/SMBJ5.0A-TR/497-3144-2-ND/654463; Operating Temperature: -55C ~ 150C (TJ); Price: 0.129; Device Package: DO-214AA, SMB
footprint DO214AA SMB
pins: 1, 2

## SMBJ5.0CA
designator D?
TVS DIODE 5VWM 9.2VC DO214AA; Manufacturer: Bourns Inc.; Type: Zener; Bidirectional Channels: 1; Power - Peak Pulse: 600W; Current - Peak Pulse: 65.3A; Voltage (Clamping): 9.2V; Voltage (Breakdown): 6.4V; Voltage (Reverse Standoff): 5V; Part Number: SMBJ5.0CA; PartId: 14720; Supplier 1: Digi-Key; Supplier Part Number 1: SMBJ5.0CABTR-ND; ComponentLink1Description: Datasheet; ComponentLink1URL: http://www.bourns.com/docs/Product-Datasheets/SMBJ.pdf; ComponentLink2Description: Digi-Key Listing; ComponentLink2URL: https://www.digikey.com/product-detail/en/bourns-inc/SMBJ5.0CA/SMBJ5.0CABTR-ND/2254207; Operating Temperature: -55C ~ 150C (TJ); Price: 0.1091; Device Package: DO-214AA, SMB
footprint BOURNS DO214AA SMB
pins: 1, 2

## SMBJ5.0CA-TR
designator D?
TVS DIODE 5VWM 13.4VC DO214AA; Manufacturer: STMicroelectronics; Type: Zener; Bidirectional Channels: 1; Power - Peak Pulse: 600W; Current - Peak Pulse: 298A (8/20us); Voltage (Clamping): 13.4V; Voltage (Breakdown): 6.4V; Voltage (Reverse Standoff): 5V; Part Number: SMBJ5.0CA-TR; PartId: 14664; Supplier 1: Digi-Key; Supplier Part Number 1: 497-3145-2-ND; ComponentLink1Description: Datasheet; ComponentLink1URL: http://www.st.com/web/en/resource/technical/document/datasheet/CD00001366.pdf; ComponentLink2Description: Digi-Key Listing; ComponentLink2URL: https://www.digikey.com/product-detail/en/stmicroelectronics/SMBJ5.0CA-TR/497-3145-2-ND/654465; Operating Temperature: -55C ~ 150C (TJ); Price: 0.1006; Device Package: DO-214AA, SMB
footprint ST DO214AA SMB
pins: 1, 2

## SMBJ6.0A
designator D?
TVS DIODE 6VWM 10.3VC DO214AA; Manufacturer: Bourns Inc.; Type: Zener; Unidirectional Channels: 1; Power - Peak Pulse: 600W; Current - Peak Pulse: 58.3A; Voltage (Clamping): 10.3V; Voltage (Breakdown): 6.67V; Voltage (Reverse Standoff): 6V; Part Number: SMBJ6.0A; PartId: 14754; Supplier 1: Digi-Key; Supplier Part Number 1: SMBJ6.0ABTR-ND; ComponentLink1Description: Datasheet; ComponentLink1URL: http://www.bourns.com/docs/Product-Datasheets/SMBJ.pdf; ComponentLink2Description: Digi-Key Listing; ComponentLink2URL: https://www.digikey.com/product-detail/en/bourns-inc/SMBJ6.0A/SMBJ6.0ABTR-ND/2254189; Operating Temperature: -55C ~ 150C (TJ); Price: 0.1001; Device Package: DO-214AA, SMB
footprint BOURNS DO214AA SMB
pins: 1, 2

## SMBJ6.0A-TR
designator D?
TVS DIODE 6VWM 13.7VC DO214AA; Manufacturer: STMicroelectronics; Type: Zener; Unidirectional Channels: 1; Power - Peak Pulse: 600W; Current - Peak Pulse: 290A (8/20us); Voltage (Clamping): 13.7V; Voltage (Breakdown): 6.7V; Voltage (Reverse Standoff): 6V; Part Number: SMBJ6.0A-TR; PartId: 14640; Supplier 1: Digi-Key; Supplier Part Number 1: 497-3006-2-ND; ComponentLink1Description: Datasheet; ComponentLink1URL: http://www2.st.com/content/ccc/resource/technical/document/datasheet/19/78/91/39/07/cd/40/65/CD00001366.pdf/files/CD00001366.pdf/_jcr_content/translations/en.CD00001366.pdf; ComponentLink2Description: Digi-Key Listing; ComponentLink2URL: https://www.digikey.com/product-detail/en/stmicroelectronics/SMBJ6.0A-TR/497-3006-2-ND/634770; Operating Temperature: -55C ~ 150C (TJ); Price: 0.099; Device Package: DO-214AA, SMB
footprint ST DO214AA SMB
pins: 1, 2

## SMBJ6.0CA
designator D?
TVS DIODE 6VWM 10.3VC DO214AA; Manufacturer: Bourns Inc.; Type: Zener; Bidirectional Channels: 1; Power - Peak Pulse: 600W; Current - Peak Pulse: 58.3A; Voltage (Clamping): 10.3V; Voltage (Breakdown): 6.67V; Voltage (Reverse Standoff): 6V; Part Number: SMBJ6.0CA; PartId: 14739; Supplier 1: Digi-Key; Supplier Part Number 1: SMBJ6.0CABTR-ND; ComponentLink1Description: Datasheet; ComponentLink1URL: http://www.bourns.com/docs/Product-Datasheets/SMBJ.pdf; ComponentLink2Description: Digi-Key Listing; ComponentLink2URL: https://www.digikey.com/product-detail/en/bourns-inc/SMBJ6.0CA/SMBJ6.0CABTR-ND/2254139; Operating Temperature: -55C ~ 150C (TJ); Price: 0.1091; Device Package: DO-214AA, SMB
footprint BOURNS DO214AA SMB
pins: 1, 2

## SMBJ6.0CA-TR
designator D?
TVS DIODE 6VWM 13.7VC SMB; Manufacturer: STMicroelectronics; Type: Zener; Bidirectional Channels: 1; Power - Peak Pulse: 600W; Current - Peak Pulse: 290A (8/20us); Voltage (Clamping): 13.7V; Voltage (Breakdown): 6.7V; Voltage (Reverse Standoff): 6V; Part Number: SMBJ6.0CA-TR; PartId: 14660; Supplier 1: Digi-Key; Supplier Part Number 1: 497-7454-2-ND; ComponentLink1Description: Datasheet; ComponentLink1URL: http://www2.st.com/content/ccc/resource/technical/document/datasheet/19/78/91/39/07/cd/40/65/CD00001366.pdf/files/CD00001366.pdf/_jcr_content/translations/en.CD00001366.pdf; ComponentLink2Description: Digi-Key Listing; ComponentLink2URL: https://www.digikey.com/product-detail/en/stmicroelectronics/SMBJ6.0CA-TR/497-7454-2-ND/1039147; Operating Temperature: -55C ~ 150C (TJ); Price: 0.0954; Device Package: DO-214AA, SMB
footprint ST DO214AA SMB
pins: 1, 2

## SMBJ6.5A-TR
designator D?
TVS DIODE 6.5VWM 14.5VC DO214AA; Manufacturer: STMicroelectronics; Type: Zener; Unidirectional Channels: 1; Power - Peak Pulse: 600W; Current - Peak Pulse: 276A (8/20us); Voltage (Clamping): 14.5V; Voltage (Breakdown): 7.2V; Voltage (Reverse Standoff): 6.5V; Part Number: SMBJ6.5A-TR; PartId: 14624; Supplier 1: Digi-Key; Supplier Part Number 1: 497-3007-2-ND; ComponentLink1Description: Datasheet; ComponentLink1URL: http://www2.st.com/content/ccc/resource/technical/document/datasheet/19/78/91/39/07/cd/40/65/CD00001366.pdf/files/CD00001366.pdf/_jcr_content/translations/en.CD00001366.pdf; ComponentLink2Description: Digi-Key Listing; ComponentLink2URL: https://www.digikey.com/product-detail/en/stmicroelectronics/SMBJ6.5A-TR/497-3007-2-ND/634771; Operating Temperature: -55C ~ 150C (TJ); Price: 0.09; Device Package: DO-214AA, SMB
footprint ST DO214AA SMB
pins: 1, 2

## SMBJ6.5CA-TR
designator D?
TVS DIODE 6.5VWM 14.5VC DO214AA; Manufacturer: STMicroelectronics; Type: Zener; Bidirectional Channels: 1; Power - Peak Pulse: 600W; Current - Peak Pulse: 276A (8/20us); Voltage (Clamping): 14.5V; Voltage (Breakdown): 7.2V; Voltage (Reverse Standoff): 6.5V; Part Number: SMBJ6.5CA-TR; PartId: 14677; Supplier 1: Digi-Key; Supplier Part Number 1: 497-3146-2-ND; ComponentLink1Description: Datasheet; ComponentLink1URL: http://www2.st.com/content/ccc/resource/technical/document/datasheet/19/78/91/39/07/cd/40/65/CD00001366.pdf/files/CD00001366.pdf/_jcr_content/translations/en.CD00001366.pdf; ComponentLink2Description: Digi-Key Listing; ComponentLink2URL: https://www.digikey.com/product-detail/en/stmicroelectronics/SMBJ6.5CA-TR/497-3146-2-ND/654467; Operating Temperature: -55C ~ 150C (TJ); Price: 0.0954; Device Package: DO-214AA, SMB
footprint ST DO214AA SMB
pins: 1, 2

## SMBJ7.0A
designator D?
TVS DIODE 7VWM 12VC DO214AC; Manufacturer: Bourns Inc.; Type: Zener; Unidirectional Channels: 1; Power - Peak Pulse: 600W; Current - Peak Pulse: 50A; Voltage (Clamping): 12V; Voltage (Breakdown): 7.78V; Voltage (Reverse Standoff): 7V; Part Number: SMBJ7.0A; PartId: 14768; Supplier 1: Digi-Key; Supplier Part Number 1: SMBJ7.0ABTR-ND; ComponentLink1Description: Datasheet; ComponentLink1URL: http://www.bourns.com/docs/Product-Datasheets/SMBJ.pdf; ComponentLink2Description: Digi-Key Listing; ComponentLink2URL: https://www.digikey.com/product-detail/en/bourns-inc/SMBJ7.0A/SMBJ7.0ABTR-ND/2254167; Operating Temperature: -55C ~ 150C (TJ); Price: 0.1001; Device Package: DO-214AA, SMB
footprint BOURNS DO214AA SMB
pins: 1, 2

## SMBJ7.0CA
designator D?
TVS DIODE 7VWM 12VC DO214AC; Manufacturer: Bourns Inc.; Type: Zener; Bidirectional Channels: 1; Power - Peak Pulse: 600W; Current - Peak Pulse: 50A; Voltage (Clamping): 12V; Voltage (Breakdown): 7.78V; Voltage (Reverse Standoff): 7V; Part Number: SMBJ7.0CA; PartId: 14728; Supplier 1: Digi-Key; Supplier Part Number 1: SMBJ7.0CABTR-ND; ComponentLink1Description: Datasheet; ComponentLink1URL: http://www.bourns.com/docs/Product-Datasheets/SMBJ.pdf; ComponentLink2Description: Digi-Key Listing; ComponentLink2URL: https://www.digikey.com/product-detail/en/bourns-inc/SMBJ7.0CA/SMBJ7.0CABTR-ND/2254153; Operating Temperature: -55C ~ 150C (TJ); Price: 0.1091; Device Package: DO-214AA, SMB
footprint BOURNS DO214AA SMB
pins: 1, 2

## SMBJ7.5A
designator D?
TVS DIODE 7.5VWM 12.9VC DO214AA; Manufacturer: Bourns Inc.; Type: Zener; Unidirectional Channels: 1; Power - Peak Pulse: 600W; Current - Peak Pulse: 46.6A; Voltage (Clamping): 12.9V; Voltage (Breakdown): 8.33V; Voltage (Reverse Standoff): 7.5V; Part Number: SMBJ7.5A; PartId: 14767; Supplier 1: Digi-Key; Supplier Part Number 1: SMBJ7.5ABTR-ND; ComponentLink1Description: Datasheet; ComponentLink1URL: http://www.bourns.com/docs/Product-Datasheets/SMBJ.pdf; ComponentLink2Description: Digi-Key Listing; ComponentLink2URL: https://www.digikey.com/product-detail/en/bourns-inc/SMBJ7.5A/SMBJ7.5ABTR-ND/2254161; Operating Temperature: -55C ~ 150C (TJ); Price: 0.1001; Device Package: DO-214AA, SMB
footprint BOURNS DO214AA SMB
pins: 1, 2

## SMBJ7.5CA
designator D?
TVS DIODE 7.5VWM 12.9VC DO214AA; Manufacturer: Bourns Inc.; Type: Zener; Bidirectional Channels: 1; Power - Peak Pulse: 600W; Current - Peak Pulse: 46.6A; Voltage (Clamping): 12.9V; Voltage (Breakdown): 8.33V; Voltage (Reverse Standoff): 7.5V; Part Number: SMBJ7.5CA; PartId: 14726; Supplier 1: Digi-Key; Supplier Part Number 1: SMBJ7.5CABTR-ND; ComponentLink1Description: Datasheet; ComponentLink1URL: http://www.bourns.com/docs/Product-Datasheets/SMBJ.pdf; ComponentLink2Description: Digi-Key Listing; ComponentLink2URL: https://www.digikey.com/product-detail/en/bourns-inc/SMBJ7.5CA/SMBJ7.5CABTR-ND/2254155; Operating Temperature: -55C ~ 150C (TJ); Price: 0.1091; Device Package: DO-214AA, SMB
footprint BOURNS DO214AA SMB
pins: 1, 2

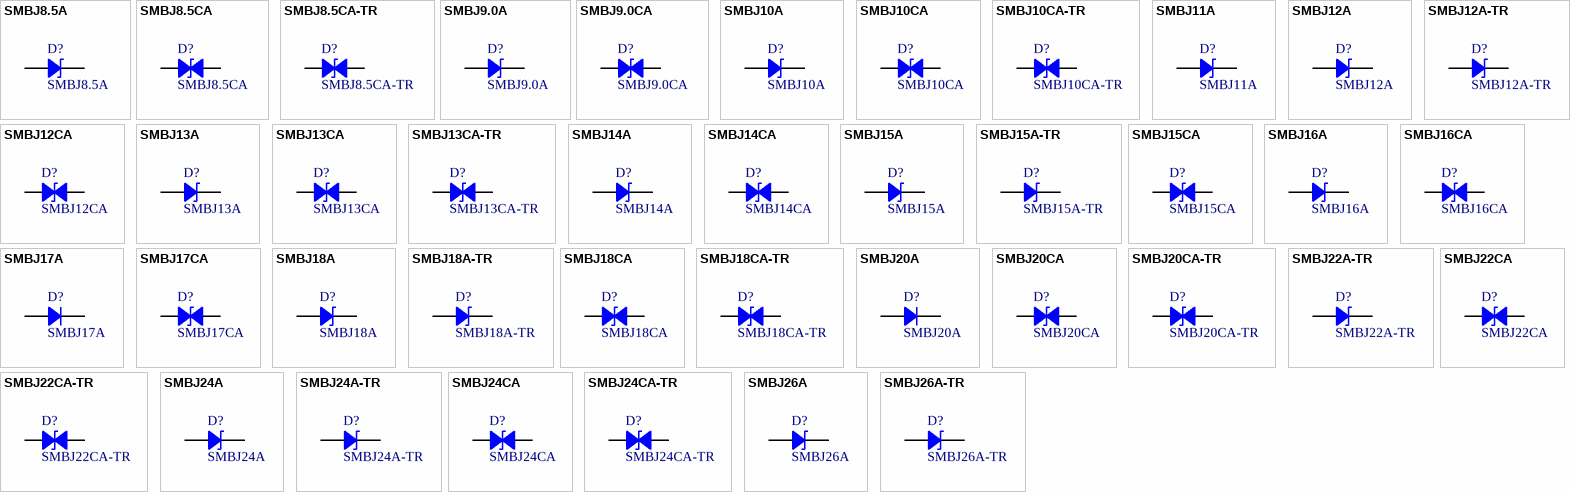
[diagram p6: symbols SMBJ8.5A to SMBJ26A-TR]

## SMBJ8.5A
designator D?
TVS DIODE 8.5VWM 14.4VC DO214AA; Manufacturer: Bourns Inc.; Type: Zener; Unidirectional Channels: 1; Power - Peak Pulse: 600W; Current - Peak Pulse: 41.7A; Voltage (Clamping): 14.4V; Voltage (Breakdown): 9.44V; Voltage (Reverse Standoff): 8.5V; Part Number: SMBJ8.5A; PartId: 14774; Supplier 1: Digi-Key; Supplier Part Number 1: SMBJ8.5ABTR-ND; ComponentLink1Description: Datasheet; ComponentLink1URL: http://www.bourns.com/docs/Product-Datasheets/SMBJ.pdf; ComponentLink2Description: Digi-Key Listing; ComponentLink2URL: https://www.digikey.com/product-detail/en/bourns-inc/SMBJ8.5A/SMBJ8.5ABTR-ND/2254564; Operating Temperature: -55C ~ 150C (TJ); Price: 0.1001; Device Package: DO-214AA, SMB
footprint BOURNS DO214AA SMB
pins: 1, 2

## SMBJ8.5CA
designator D?
TVS DIODE 8.5VWM 14.4VC DO214AA; Manufacturer: Bourns Inc.; Type: Zener; Bidirectional Channels: 1; Power - Peak Pulse: 600W; Current - Peak Pulse: 41.7A; Voltage (Clamping): 14.4V; Voltage (Breakdown): 9.44V; Voltage (Reverse Standoff): 8.5V; Part Number: SMBJ8.5CA; PartId: 14709; Supplier 1: Digi-Key; Supplier Part Number 1: SMBJ8.5CABTR-ND; ComponentLink1Description: Datasheet; ComponentLink1URL: http://www.bourns.com/docs/Product-Datasheets/SMBJ.pdf; ComponentLink2Description: Digi-Key Listing; ComponentLink2URL: https://www.digikey.com/product-detail/en/bourns-inc/SMBJ8.5CA/SMBJ8.5CABTR-ND/2254563; Operating Temperature: -55C ~ 150C (TJ); Price: 0.1091; Device Package: DO-214AA, SMB
footprint BOURNS DO214AA SMB
pins: 1, 2

## SMBJ8.5CA-TR
designator D?
TVS DIODE 8.5VWM 19.5VC SMB; Manufacturer: STMicroelectronics; Type: Zener; Bidirectional Channels: 1; Power - Peak Pulse: 600W; Current - Peak Pulse: 205A (8/20us); Voltage (Clamping): 19.5V; Voltage (Breakdown): 9.4V; Voltage (Reverse Standoff): 8.5V; Part Number: SMBJ8.5CA-TR; PartId: 14700; Supplier 1: Digi-Key; Supplier Part Number 1: 497-7455-2-ND; ComponentLink1Description: Datasheet; ComponentLink1URL: http://www2.st.com/content/ccc/resource/technical/document/datasheet/19/78/91/39/07/cd/40/65/CD00001366.pdf/files/CD00001366.pdf/_jcr_content/translations/en.CD00001366.pdf; ComponentLink2Description: Digi-Key Listing; ComponentLink2URL: https://www.digikey.com/product-detail/en/stmicroelectronics/SMBJ8.5CA-TR/497-7455-2-ND/1039149; Operating Temperature: -55C ~ 150C (TJ); Price: 0.0821; Device Package: DO-214AA, SMB
footprint ST DO214AA SMB
pins: 1, 2

## SMBJ9.0A
designator D?
TVS DIODE 9VWM 15.4VC DO214AA; Manufacturer: Bourns Inc.; Type: Zener; Unidirectional Channels: 1; Power - Peak Pulse: 600W; Current - Peak Pulse: 39A; Voltage (Clamping): 15.4V; Voltage (Breakdown): 10V; Voltage (Reverse Standoff): 9V; Part Number: SMBJ9.0A; PartId: 14775; Supplier 1: Digi-Key; Supplier Part Number 1: SMBJ9.0ABTR-ND; ComponentLink1Description: Datasheet; ComponentLink1URL: http://www.bourns.com/docs/Product-Datasheets/SMBJ.pdf; ComponentLink2Description: Digi-Key Listing; ComponentLink2URL: https://www.digikey.com/product-detail/en/bourns-inc/SMBJ9.0A/SMBJ9.0ABTR-ND/2254598; Operating Temperature: -55C ~ 150C (TJ); Price: 0.1001; Device Package: DO-214AA, SMB
footprint BOURNS DO214AA SMB
pins: 1, 2

## SMBJ9.0CA
designator D?
TVS DIODE 9VWM 15.4VC DO214AA; Manufacturer: Bourns Inc.; Type: Zener; Bidirectional Channels: 1; Power - Peak Pulse: 600W; Current - Peak Pulse: 39A; Voltage (Clamping): 15.4V; Voltage (Breakdown): 10V; Voltage (Reverse Standoff): 9V; Part Number: SMBJ9.0CA; PartId: 14745; Supplier 1: Digi-Key; Supplier Part Number 1: SMBJ9.0CABTR-ND; ComponentLink1Description: Datasheet; ComponentLink1URL: http://www.bourns.com/docs/Product-Datasheets/SMBJ.pdf; ComponentLink2Description: Digi-Key Listing; ComponentLink2URL: https://www.digikey.com/product-detail/en/bourns-inc/SMBJ9.0CA/SMBJ9.0CABTR-ND/2254567; Operating Temperature: -55C ~ 150C (TJ); Price: 0.1091; Device Package: DO-214AA, SMB
footprint BOURNS DO214AA SMB
pins: 1, 2

## SMBJ10A
designator D?
TVS DIODE 10VWM 17VC DO214AA; Manufacturer: Bourns Inc.; Type: Zener; Unidirectional Channels: 1; Power - Peak Pulse: 600W; Current - Peak Pulse: 35.3A; Voltage (Clamping): 17V; Voltage (Breakdown): 11.1V; Voltage (Reverse Standoff): 10V; Part Number: SMBJ10A; PartId: 14765; Supplier 1: Digi-Key; Supplier Part Number 1: SMBJ10ABTR-ND; ComponentLink1Description: Datasheet; ComponentLink1URL: http://www.bourns.com/docs/Product-Datasheets/SMBJ.pdf; ComponentLink2Description: Digi-Key Listing; ComponentLink2URL: https://www.digikey.com/product-detail/en/bourns-inc/SMBJ10A/SMBJ10ABTR-ND/2254559; Operating Temperature: -55C ~ 150C (TJ); Price: 0.1001; Device Package: DO-214AA, SMB
footprint BOURNS DO214AA SMB
pins: 1, 2